# Altium footprint library PESD3V3L4UG,115.PcbLib: 3 footprints
Each footprint in its own frame and in the unit in brackets; x right, y up, seen from the top. Pads: shape width x height; smd on the part's side, far side on the other; paste and mask are expansions set on the pad; w line width, h text height; cw(c..) or ccw(c..) is an arc to the next point about the centre after c.
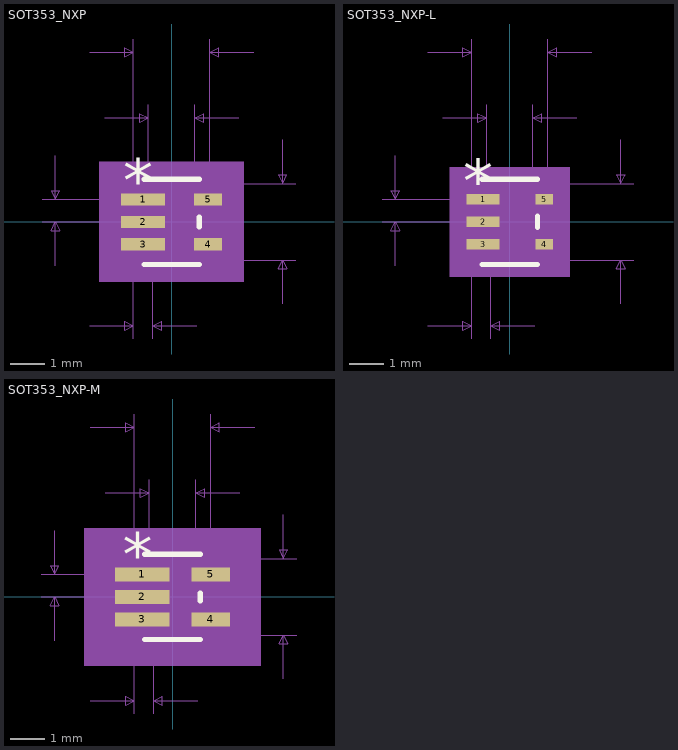
[diagram p0: the footprints below, top view; thin cyan lines are the x and y axes]

## SOT353_NXP [mil]
pads (5):
  rect 50x14 smd paste+0 mask+0: 1(-32.5,25.59) 2(-32.5,0) 3(-32.5,-25.59)
  rect 32x14 smd paste+0 mask+0: 4(41.5,-25.59) 5(41.5,25.59)
Top Overlay:
  lines w6: -31.5,-48.5 31.5,-48.5 ; -31.5,48.5 31.5,48.5 ; 31.5,-5.49 31.5,5.49
  text "*" at -55,22.59 h50
Mechanical 5:
  region: 82.5,-68.5 82.5,68.5 -82.5,68.5 -82.5,-68.5
Mechanical 7:
  lines w1: -147.5,0 -32.5,0 ; -147.5,25.59 -32.5,25.59 ; -132.5,-50 -132.5,0 ; -132.5,75.59 -132.5,25.59 ; -93.5,-118.5 -43.5,-118.5 ; -93.5,193.5 -43.5,193.5 ; -76.5,118.5 -26.5,118.5 ; -43.5,-133.5 -43.5,0 -43.5,208.5 ; -26.5,0 -26.5,133.5 ; -21.5,-133.5 -21.5,0 ; 0,-43.5 141.5,-43.5 ; 0,43.5 141.5,43.5 ; 26.5,0 26.5,133.5 ; 28.5,-118.5 -21.5,-118.5 ; 43.5,0 43.5,208.5 ; 76.5,118.5 26.5,118.5 ; 93.5,193.5 43.5,193.5 ; 126.5,-93.5 126.5,-43.5 ; 126.5,93.5 126.5,43.5 ; -132.5,0 -137.5,-10 -127.5,-10 -132.5,0 ; -132.5,25.59 -137.5,35.59 -127.5,35.59 -132.5,25.59 ; -43.5,-118.5 -53.5,-113.5 -53.5,-123.5 -43.5,-118.5 ; -43.5,193.5 -53.5,198.5 -53.5,188.5 -43.5,193.5 ; -26.5,118.5 -36.5,123.5 -36.5,113.5 -26.5,118.5 ; -21.5,-118.5 -11.5,-113.5 -11.5,-123.5 -21.5,-118.5 ; 26.5,118.5 36.5,123.5 36.5,113.5 26.5,118.5 ; 43.5,193.5 53.5,198.5 53.5,188.5 43.5,193.5 ; 126.5,-43.5 121.5,-53.5 131.5,-53.5 126.5,-43.5 ; 126.5,43.5 121.5,53.5 131.5,53.5 126.5,43.5
  text "Default Padstyle: RX50Y14D0T" at -350,-243.5 h50
  text "Alt 1 Padstyle: OX60Y90D30P" at -337.5,-363.5 h50
  text "Alt 2 Padstyle: OX90Y60D30P" at -337.5,-423.5 h50
  text "0.053in/1.346mm" at -93.75,138.5 h25
  text "0.087in/2.21mm" at -87.5,213.5 h25
  text "0.087in/2.21mm" at 146.5,-12.5 h25
  text "0.026in/0.65mm" at -327.5,0.3 h25
  text "0.018in/0.457mm" at -126.25,-163.5 h25
Mechanical 13:
  lines w1: -43.5,-31.59 -43.5,-19.59 -26.5,-19.59 -26.5,-31.59 -43.5,-31.59 ; -43.5,-6 -43.5,6 -26.5,6 -26.5,-6 -43.5,-6 ; -43.5,19.59 -43.5,31.59 -26.5,31.59 -26.5,19.59 -43.5,19.59 ; -26.5,-43.5 26.5,-43.5 26.5,43.5 -26.5,43.5 -26.5,-43.5 ; 26.5,-31.59 26.5,-19.59 43.5,-19.59 43.5,-31.59 26.5,-31.59 ; 26.5,19.59 26.5,31.59 43.5,31.59 43.5,19.59 26.5,19.59
  text "*" at -29,2.59 h50
Mechanical 15:
  region: 36.5,-53.5 -36.5,-53.5 -36.5,-42.59 -68.5,-42.59 -68.5,42.59 -36.5,42.59 -36.5,53.5 36.5,53.5 36.5,42.59 68.5,42.59 68.5,-42.59 36.5,-42.59
  lines w6: -68.5,-42.59 -36.5,-42.59 -36.5,-53.5 36.5,-53.5 36.5,-42.59 68.5,-42.59 68.5,42.59 36.5,42.59 36.5,53.5 -36.5,53.5 -36.5,42.59 -68.5,42.59 -68.5,-42.59
3D body: height 10, standoff 0, extent 0,0 10,10

## SOT353_NXP-L [mil]
pads (5):
  rect 38x12 smd paste+0 mask+0: 1(-30.5,25.59) 2(-30.5,0) 3(-30.5,-25.59)
  rect 20x12 smd paste+0 mask+0: 4(39.5,-25.59) 5(39.5,25.59)
Top Overlay:
  lines w6: -31.5,-48.5 31.5,-48.5 ; -31.5,48.5 31.5,48.5 ; 31.5,-6.49 31.5,6.49
  text "*" at -53,21.59 h50
Mechanical 5:
  region: 68.5,-62.5 68.5,62.5 -68.5,62.5 -68.5,-62.5
Mechanical 7:
  lines w1: -145.5,0 -30.5,0 ; -145.5,25.59 -30.5,25.59 ; -130.5,-50 -130.5,0 ; -130.5,75.59 -130.5,25.59 ; -93.5,-118.5 -43.5,-118.5 ; -93.5,193.5 -43.5,193.5 ; -76.5,118.5 -26.5,118.5 ; -43.5,-133.5 -43.5,0 -43.5,208.5 ; -26.5,0 -26.5,133.5 ; -21.5,-133.5 -21.5,0 ; 0,-43.5 141.5,-43.5 ; 0,43.5 141.5,43.5 ; 26.5,0 26.5,133.5 ; 28.5,-118.5 -21.5,-118.5 ; 43.5,0 43.5,208.5 ; 76.5,118.5 26.5,118.5 ; 93.5,193.5 43.5,193.5 ; 126.5,-93.5 126.5,-43.5 ; 126.5,93.5 126.5,43.5 ; -130.5,0 -135.5,-10 -125.5,-10 -130.5,0 ; -130.5,25.59 -135.5,35.59 -125.5,35.59 -130.5,25.59 ; -43.5,-118.5 -53.5,-113.5 -53.5,-123.5 -43.5,-118.5 ; -43.5,193.5 -53.5,198.5 -53.5,188.5 -43.5,193.5 ; -26.5,118.5 -36.5,123.5 -36.5,113.5 -26.5,118.5 ; -21.5,-118.5 -11.5,-113.5 -11.5,-123.5 -21.5,-118.5 ; 26.5,118.5 36.5,123.5 36.5,113.5 26.5,118.5 ; 43.5,193.5 53.5,198.5 53.5,188.5 43.5,193.5 ; 126.5,-43.5 121.5,-53.5 131.5,-53.5 126.5,-43.5 ; 126.5,43.5 121.5,53.5 131.5,53.5 126.5,43.5
  text "Default Padstyle: RX38Y12D0T" at -350,-243.5 h50
  text "Alt 1 Padstyle: OX60Y90D30P" at -337.5,-363.5 h50
  text "Alt 2 Padstyle: OX90Y60D30P" at -337.5,-423.5 h50
  text "0.053in/1.346mm" at -93.75,138.5 h25
  text "0.087in/2.21mm" at -87.5,213.5 h25
  text "0.087in/2.21mm" at 146.5,-12.5 h25
  text "0.026in/0.65mm" at -325.5,0.3 h25
  text "0.018in/0.457mm" at -126.25,-163.5 h25
Mechanical 13:
  lines w1: -43.5,-31.59 -43.5,-19.59 -26.5,-19.59 -26.5,-31.59 -43.5,-31.59 ; -43.5,-6 -43.5,6 -26.5,6 -26.5,-6 -43.5,-6 ; -43.5,19.59 -43.5,31.59 -26.5,31.59 -26.5,19.59 -43.5,19.59 ; -26.5,-43.5 26.5,-43.5 26.5,43.5 -26.5,43.5 -26.5,-43.5 ; 26.5,-31.59 26.5,-19.59 43.5,-19.59 43.5,-31.59 26.5,-31.59 ; 26.5,19.59 26.5,31.59 43.5,31.59 43.5,19.59 26.5,19.59
  text "*" at -29,1.59 h50
Mechanical 15:
  region: 30.5,-47.5 -30.5,-47.5 -30.5,-35.59 -53.5,-35.59 -53.5,35.59 -30.5,35.59 -30.5,47.5 30.5,47.5 30.5,35.59 53.5,35.59 53.5,-35.59 30.5,-35.59
  lines w6: -53.5,-35.59 -30.5,-35.59 -30.5,-47.5 30.5,-47.5 30.5,-35.59 53.5,-35.59 53.5,35.59 30.5,35.59 30.5,47.5 -30.5,47.5 -30.5,35.59 -53.5,35.59 -53.5,-35.59
3D body "SOT353_NXP-L.step": height 43.11, standoff 0, extent -43.5,-43.5 43.51,43.51
3D body: height 10, standoff 0, extent 0,0 10,10

## SOT353_NXP-M [mil]
pads (5):
  rect 62x16 smd paste+0 mask+0: 1(-34.5,25.59) 2(-34.5,0) 3(-34.5,-25.59)
  rect 44x16 smd paste+0 mask+0: 4(43.5,-25.59) 5(43.5,25.59)
Top Overlay:
  lines w6: -31.5,-48.5 31.5,-48.5 ; -31.5,48.5 31.5,48.5 ; 31.5,-4.49 31.5,4.49
  text "*" at -57,23.59 h50
Mechanical 5:
  region: 100.5,-78.5 100.5,78.5 -100.5,78.5 -100.5,-78.5
Mechanical 7:
  lines w1: -149.5,0 -34.5,0 ; -149.5,25.59 -34.5,25.59 ; -134.5,-50 -134.5,0 ; -134.5,75.59 -134.5,25.59 ; -93.5,-118.5 -43.5,-118.5 ; -93.5,193.5 -43.5,193.5 ; -76.5,118.5 -26.5,118.5 ; -43.5,-133.5 -43.5,0 -43.5,208.5 ; -26.5,0 -26.5,133.5 ; -21.5,-133.5 -21.5,0 ; 0,-43.5 141.5,-43.5 ; 0,43.5 141.5,43.5 ; 26.5,0 26.5,133.5 ; 28.5,-118.5 -21.5,-118.5 ; 43.5,0 43.5,208.5 ; 76.5,118.5 26.5,118.5 ; 93.5,193.5 43.5,193.5 ; 126.5,-93.5 126.5,-43.5 ; 126.5,93.5 126.5,43.5 ; -134.5,0 -139.5,-10 -129.5,-10 -134.5,0 ; -134.5,25.59 -139.5,35.59 -129.5,35.59 -134.5,25.59 ; -43.5,-118.5 -53.5,-113.5 -53.5,-123.5 -43.5,-118.5 ; -43.5,193.5 -53.5,198.5 -53.5,188.5 -43.5,193.5 ; -26.5,118.5 -36.5,123.5 -36.5,113.5 -26.5,118.5 ; -21.5,-118.5 -11.5,-113.5 -11.5,-123.5 -21.5,-118.5 ; 26.5,118.5 36.5,123.5 36.5,113.5 26.5,118.5 ; 43.5,193.5 53.5,198.5 53.5,188.5 43.5,193.5 ; 126.5,-43.5 121.5,-53.5 131.5,-53.5 126.5,-43.5 ; 126.5,43.5 121.5,53.5 131.5,53.5 126.5,43.5
  text "Default Padstyle: RX62Y16D0T" at -350,-243.5 h50
  text "Alt 1 Padstyle: OX60Y90D30P" at -337.5,-363.5 h50
  text "Alt 2 Padstyle: OX90Y60D30P" at -337.5,-423.5 h50
  text "0.053in/1.346mm" at -93.75,138.5 h25
  text "0.087in/2.21mm" at -87.5,213.5 h25
  text "0.087in/2.21mm" at 146.5,-12.5 h25
  text "0.026in/0.65mm" at -329.5,0.3 h25
  text "0.018in/0.457mm" at -126.25,-163.5 h25
Mechanical 13:
  lines w1: -43.5,-31.59 -43.5,-19.59 -26.5,-19.59 -26.5,-31.59 -43.5,-31.59 ; -43.5,-6 -43.5,6 -26.5,6 -26.5,-6 -43.5,-6 ; -43.5,19.59 -43.5,31.59 -26.5,31.59 -26.5,19.59 -43.5,19.59 ; -26.5,-43.5 26.5,-43.5 26.5,43.5 -26.5,43.5 -26.5,-43.5 ; 26.5,-31.59 26.5,-19.59 43.5,-19.59 43.5,-31.59 26.5,-31.59 ; 26.5,19.59 26.5,31.59 43.5,31.59 43.5,19.59 26.5,19.59
  text "*" at -29,3.59 h50
Mechanical 15:
  region: 46.5,-63.5 -46.5,-63.5 -46.5,-53.59 -93.5,-53.59 -93.5,53.59 -46.5,53.59 -46.5,63.5 46.5,63.5 46.5,53.59 93.5,53.59 93.5,-53.59 46.5,-53.59
  lines w6: -93.5,-53.59 -46.5,-53.59 -46.5,-63.5 46.5,-63.5 46.5,-53.59 93.5,-53.59 93.5,53.59 46.5,53.59 46.5,63.5 -46.5,63.5 -46.5,53.59 -93.5,53.59 -93.5,-53.59
3D body: height 10, standoff 0, extent 0,0 10,10